# EAGLE library part MODULO (library ASR-1)
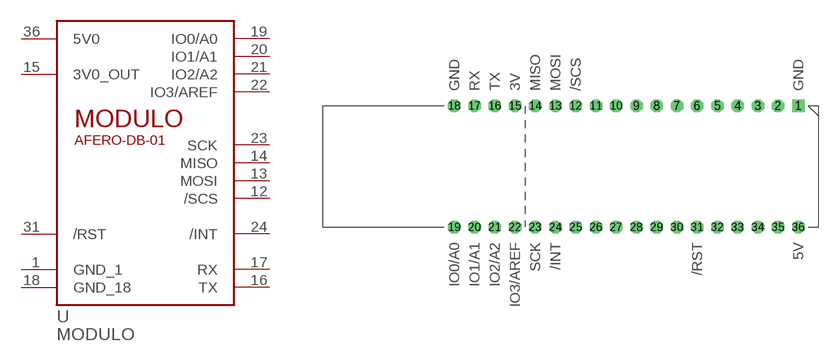
[diagram p1: symbol with the pads of MODULO; footprint MODULO]

Designator prefix -

## MODULOAFERO-DB-01  [MODULO]
1  GND_1  pwr
12  /SCS
13  MOSI
14  MISO
15  3V0_OUT  pwr
16  TX
17  RX
18  GND_18  pwr
19  IO0/A0
20  IO1/A1
21  IO2/A2
22  IO3/AREF
23  SCK
24  /INT
31  /RST  in
36  5V0  pwr

## Footprint MODULO (pad centres in mm)
drill 1.041 square: 1 27.94,7.62
drill 1.041 octagon: 2 25.4,7.62; 3 22.86,7.62; 4 20.32,7.62; 5 17.78,7.62; 6 15.24,7.62; 7 12.7,7.62; 8 10.16,7.62; 9 7.62,7.62; 10 5.08,7.62; 11 2.54,7.62; 12 0,7.62; 13 -2.54,7.62; 14 -5.08,7.62; 15 -7.62,7.62; 16 -10.16,7.62; 17 -12.7,7.62; 18 -15.24,7.62; 19 -15.24,-7.62; 20 -12.7,-7.62; 21 -10.16,-7.62; 22 -7.62,-7.62; 23 -5.08,-7.62; 24 -2.54,-7.62; 25 0,-7.62; 26 2.54,-7.62; 27 5.08,-7.62; 28 7.62,-7.62; 29 10.16,-7.62; 30 12.7,-7.62; 31 15.24,-7.62; 32 17.78,-7.62; 33 20.32,-7.62; 34 22.86,-7.62; 35 25.4,-7.62; 36 27.94,-7.62